# EAGLE library part ISO7220 (library texas-instruments)
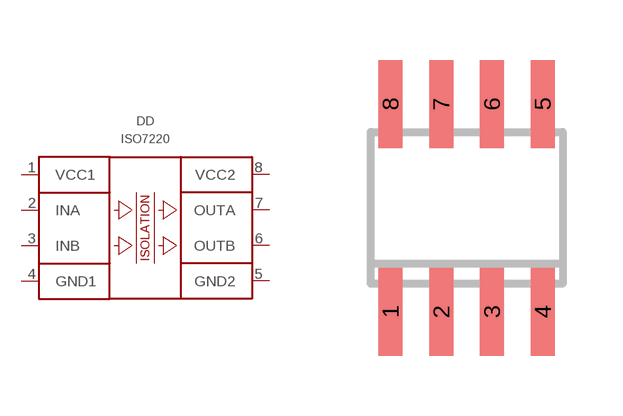
[diagram p23: symbol with the pads of SOIC8; footprint SOIC8]

Designator prefix DD

## ISO7220BDR  [SOIC8]
1  VCC1  pwr
2  INA  in
3  INB  in
4  GND1  pwr
5  GND2  pwr
6  OUTB  out
7  OUTA  out
8  VCC2  pwr

## ISO7220CDR  [SOIC8]
Pads as for SOIC8

## ISO7220ADR  [SOIC8]
Pads as for SOIC8

## ISO7220MDR  [SOIC8]
Pads as for SOIC8

## Footprint SOIC8 (pad centres in mm)
Small Outline IC
smd 0.6 x 2.2: 1 -1.905,-2.6; 2 -0.635,-2.6; 3 0.635,-2.6; 4 1.905,-2.6; 5 1.905,2.6; 6 0.635,2.6; 7 -0.635,2.6; 8 -1.905,2.6